# EAGLE library part MAX3096 (library customy)
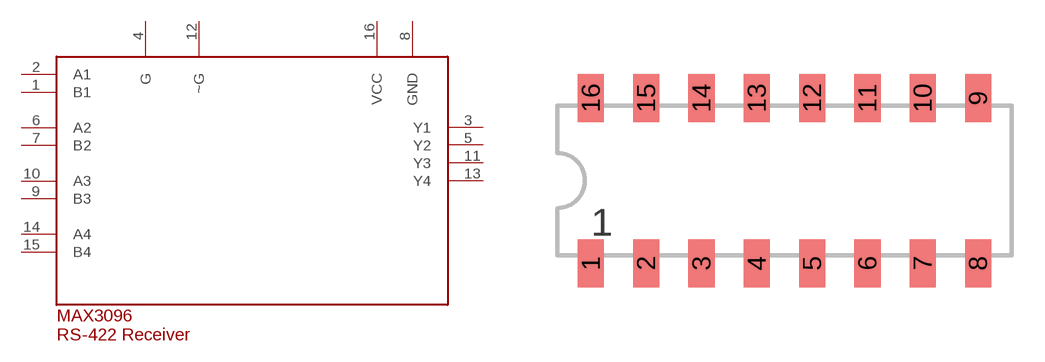
[diagram p5: symbol with the pads of DIP16; footprint DIP16]

Designator prefix -

## MAX3096  [DIP16]
1  B1
2  A1
3  Y1
4  G
5  Y2
6  A2
7  B2
8  GND
9  B3
10  A3
11  Y3
12  ~G
13  Y4
14  A4
15  B4
16  VCC

## Footprint DIP16 (pad centres in mm)
SMD DIL16 dual in line package
smd 1.2 x 2.2: 1 -8.89,-3.8; 2 -6.35,-3.8; 3 -3.81,-3.8; 4 -1.27,-3.8; 5 1.27,-3.8; 6 3.81,-3.8; 7 6.35,-3.8; 8 8.89,-3.8; 9 8.89,3.8; 10 6.35,3.8; 11 3.81,3.8; 12 1.27,3.8; 13 -1.27,3.8; 14 -3.81,3.8; 15 -6.35,3.8; 16 -8.89,3.8